# Altium footprint library CONN_W2B_JST.PcbLib: 168 footprints (part 6 of 11)
Each footprint in its own frame and in the unit in brackets; x right, y up, seen from the top. Pads: shape width x height; smd on the part's side, far side on the other; paste and mask are expansions set on the pad; w line width, h text height; cw(c..) or ccw(c..) is an arc to the next point about the centre after c.
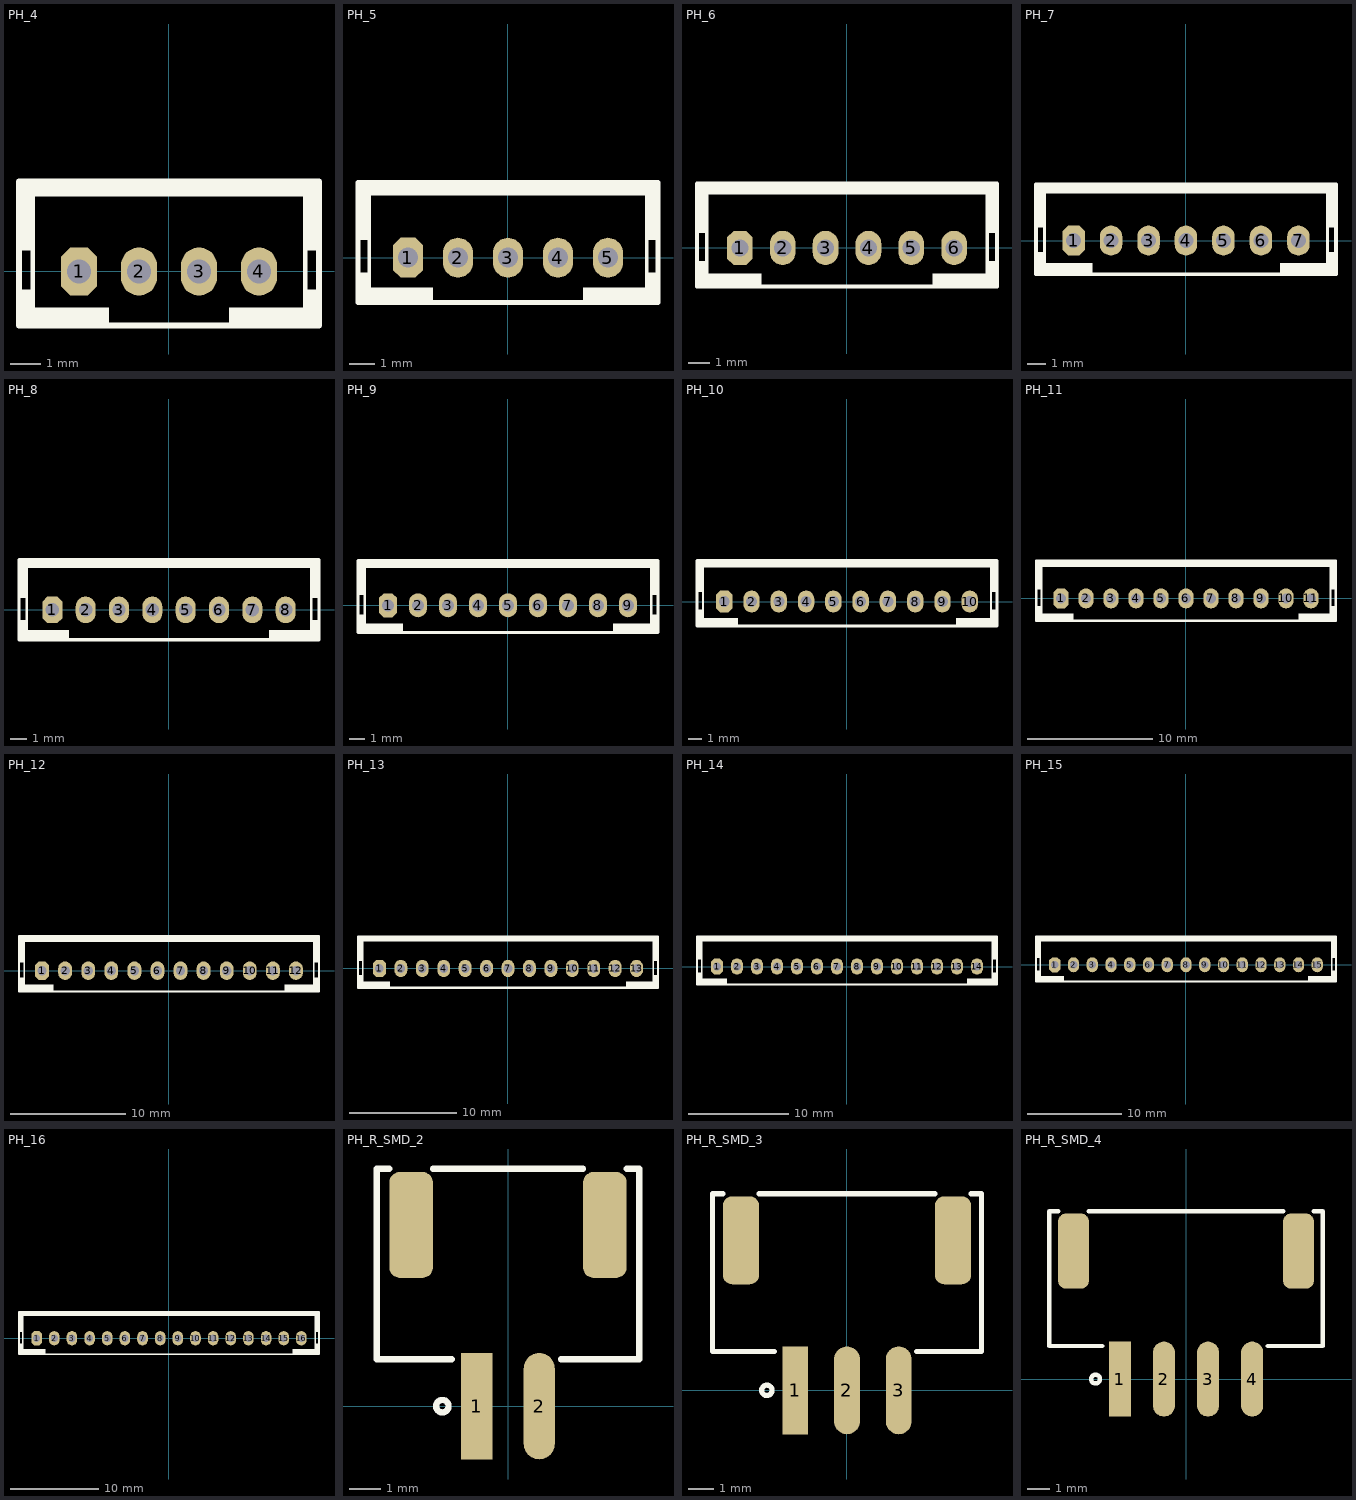
[diagram p5: the footprints below, top view; thin cyan lines are the x and y axes]

## PH_4 [mm] "JST PH Series, pitch: 2.0mm, 2.0A/100v"
pads (4):
  oct 1.2x1.6 hole 0.8: 1(-3,0)
  oval 1.2x1.6 hole 0.8: 2(-1,0) 3(1,0) 4(3,0)
Top Overlay:
  region: 5,-0.6 4.5,-0.6 4.5,-1.8 5,-1.8
  region: 5,-1.2 2,-1.2 2,-1.8 5,-1.8
  region: 5,3 4.5,3 4.5,0.7 5,0.7
  rectangle: -5,-1.8 -4.5,-0.6
  rectangle: -5,-1.8 -2,-1.2
  rectangle: -5,0.7 -4.5,3
  region: -5,3 -5,2.5 5,2.5 5,3
  lines w0.15: -4.55,-1.8 -4.55,3 ; 4.55,-1.8 4.55,3
  lines w0.2: -5,-1.8 5,-1.8 5,3 -5,3 -5,-1.8
3D body "JST - PH - Thru (V) - 4Pin - 2.00mm.stp": height 5.89, standoff -3.05, extent -4.93,-1.674 4.93,3

## PH_5 [mm] "JST PH Series, pitch: 2.0mm, 2.0A/100v"
pads (5):
  oct 1.2x1.6 hole 0.8: 1(-4,0)
  oval 1.2x1.6 hole 0.8: 2(-2,0) 3(0,0) 4(2,0) 5(4,0)
Top Overlay:
  region: 6,-0.6 5.5,-0.6 5.5,-1.8 6,-1.8
  region: 6,-1.2 3,-1.2 3,-1.8 6,-1.8
  region: 6,3 5.5,3 5.5,0.7 6,0.7
  rectangle: -6,-1.8 -5.5,-0.6
  rectangle: -6,-1.8 -3,-1.2
  rectangle: -6,0.7 -5.5,3
  region: -6,3 -6,2.5 6,2.5 6,3
  lines w0.15: -5.55,-1.8 -5.55,3 ; 5.55,-1.8 5.55,3
  lines w0.2: -6,-1.8 6,-1.8 6,3 -6,3 -6,-1.8
3D body "JST - PH - Thru (V) - 5Pin - 2.00mm.stp": height 5.89, standoff -3.05, extent -5.93,-1.674 5.93,3

## PH_6 [mm] "JST PH Series, pitch: 2.0mm, 2.0A/100v"
pads (6):
  oct 1.2x1.6 hole 0.8: 1(-5,0)
  oval 1.2x1.6 hole 0.8: 2(-3,0) 3(-1,0) 4(1,0) 5(3,0) 6(5,0)
Top Overlay:
  region: 7,-0.6 6.5,-0.6 6.5,-1.8 7,-1.8
  region: 7,-1.2 4,-1.2 4,-1.8 7,-1.8
  region: 7,3 6.5,3 6.5,0.7 7,0.7
  rectangle: -7,-1.8 -6.5,-0.6
  rectangle: -7,-1.8 -4,-1.2
  rectangle: -7,0.7 -6.5,3
  region: -7,3 -7,2.5 7,2.5 7,3
  lines w0.15: -6.55,-1.8 -6.55,3 ; 6.55,-1.8 6.55,3
  lines w0.2: -7,-1.8 7,-1.8 7,3 -7,3 -7,-1.8
3D body "JST - PH - Thru (V) - 6Pin - 2.00mm.stp": height 5.89, standoff -3.05, extent -6.93,-1.674 6.93,3

## PH_7 [mm] "JST PH Series, pitch: 2.0mm, 2.0A/100v"
pads (7):
  oct 1.2x1.6 hole 0.8: 1(-6,0)
  oval 1.2x1.6 hole 0.8: 2(-4,0) 3(-2,0) 4(0,0) 5(2,0) 6(4,0) 7(6,0)
Top Overlay:
  region: 8,-0.6 7.5,-0.6 7.5,-1.8 8,-1.8
  region: 8,-1.2 5,-1.2 5,-1.8 8,-1.8
  region: 8,3 7.5,3 7.5,0.7 8,0.7
  rectangle: -8,-1.8 -7.5,-0.6
  rectangle: -8,-1.8 -5,-1.2
  rectangle: -8,0.7 -7.5,3
  region: -8,3 -8,2.5 8,2.5 8,3
  lines w0.15: -7.55,-1.8 -7.55,3 ; 7.55,-1.8 7.55,3
  lines w0.2: -8,-1.8 8,-1.8 8,3 -8,3 -8,-1.8
3D body "JST - PH - Thru (V) - 7Pin - 2.00mm.stp": height 5.89, standoff -3.05, extent -7.93,-1.674 7.93,3

## PH_8 [mm] "JST PH Series, pitch: 2.0mm, 2.0A/100v"
pads (8):
  oct 1.2x1.6 hole 0.8: 1(-7,0)
  oval 1.2x1.6 hole 0.8: 2(-5,0) 3(-3,0) 4(-1,0) 5(1,0) 6(3,0) 7(5,0) 8(7,0)
Top Overlay:
  region: 9,-0.6 8.5,-0.6 8.5,-1.8 9,-1.8
  region: 9,-1.2 6,-1.2 6,-1.8 9,-1.8
  region: 9,3 8.5,3 8.5,0.7 9,0.7
  rectangle: -9,-1.8 -8.5,-0.6
  rectangle: -9,-1.8 -6,-1.2
  rectangle: -9,0.7 -8.5,3
  region: -9,3 -9,2.5 9,2.5 9,3
  lines w0.15: -8.55,-1.8 -8.55,3 ; 8.55,-1.8 8.55,3
  lines w0.2: -9,-1.8 9,-1.8 9,3 -9,3 -9,-1.8
3D body "JST - PH - Thru (V) - 8Pin - 2.00mm.stp": height 5.89, standoff -3.05, extent -8.93,-1.674 8.93,3

## PH_9 [mm] "JST PH Series, pitch: 2.0mm, 2.0A/100v"
pads (9):
  oct 1.2x1.6 hole 0.8: 1(-8,0)
  oval 1.2x1.6 hole 0.8: 2(-6,0) 3(-4,0) 4(-2,0) 5(0,0) 6(2,0) 7(4,0) 8(6,0) 9(8,0)
Top Overlay:
  region: 10,-0.6 9.5,-0.6 9.5,-1.8 10,-1.8
  region: 10,-1.2 7,-1.2 7,-1.8 10,-1.8
  region: 10,3 9.5,3 9.5,0.7 10,0.7
  rectangle: -10,-1.8 -9.5,-0.6
  rectangle: -10,-1.8 -7,-1.2
  rectangle: -10,0.7 -9.5,3
  region: -10,3 -10,2.5 9.93,2.5 9.93,3
  lines w0.15: -9.55,-1.8 -9.55,3 ; 9.55,-1.8 9.55,3
  lines w0.2: -10,-1.8 10,-1.8 10,3 -10,3 -10,-1.8
3D body "JST - PH - Thru (V) - 9Pin - 2.00mm.stp": height 5.89, standoff -3.05, extent -9.93,-1.674 9.93,3

## PH_10 [mm] "JST PH Series, pitch: 2.0mm, 2.0A/100v"
pads (10):
  oct 1.2x1.6 hole 0.8: 1(-9,0)
  oval 1.2x1.6 hole 0.8: 2(-7,0) 3(-5,0) 4(-3,0) 5(-1,0) 6(1,0) 7(3,0) 8(5,0) 9(7,0) 10(9,0)
Top Overlay:
  region: 11,-0.6 10.5,-0.6 10.5,-1.8 11,-1.8
  region: 11,-1.2 8,-1.2 8,-1.8 11,-1.8
  region: 11,3 10.5,3 10.5,0.7 11,0.7
  rectangle: -11,-1.8 -10.5,-0.6
  rectangle: -11,-1.8 -8,-1.2
  rectangle: -11,0.7 -10.5,3
  region: -11,3 -11,2.5 11,2.5 11,3
  lines w0.15: -10.55,-1.8 -10.55,3 ; 10.55,-1.8 10.55,3
  lines w0.2: -11,-1.8 11,-1.8 11,3 -11,3 -11,-1.8
3D body "JST - PH - Thru (V) - 10Pin - 2.00mm.stp": height 5.89, standoff -3.05, extent -10.93,-1.674 10.93,3

## PH_11 [mm] "JST PH Series, pitch: 2.0mm, 2.0A/100v"
pads (11):
  oct 1.2x1.6 hole 0.8: 1(-10,0)
  oval 1.2x1.6 hole 0.8: 2(-8,0) 3(-6,0) 4(-4,0) 5(-2,0) 6(0,0) 7(2,0) 8(4,0) 9(6,0) 10(8,0) 11(10,0)
Top Overlay:
  region: -12,3 -12,2.5 12,2.5 12,3
  rectangle: -12,0.7 -11.5,3
  rectangle: -12,-1.8 -9,-1.2
  rectangle: -12,-1.8 -11.5,-0.6
  region: 12,3 11.5,3 11.5,0.7 12,0.7
  region: 12,-1.2 9,-1.2 9,-1.8 12,-1.8
  region: 12,-0.6 11.5,-0.6 11.5,-1.8 12,-1.8
  lines w0.15: -11.55,-1.8 -11.55,3 ; 11.55,-1.8 11.55,3
  lines w0.2: -12,-1.8 -12,3 12,3 12,-1.8 -12,-1.8
3D body "JST - PH - Thru (V) - 11Pin - 2.00mm.stp": height 5.89, standoff -3.05, extent -11.93,-1.674 11.93,3

## PH_12 [mm] "JST PH Series, pitch: 2.0mm, 2.0A/100v"
pads (12):
  oct 1.2x1.6 hole 0.8: 1(-11,0)
  oval 1.2x1.6 hole 0.8: 2(-9,0) 3(-7,0) 4(-5,0) 5(-3,0) 6(-1,0) 7(1,0) 8(3,0) 9(5,0) 10(7,0) 11(9,0) 12(11,0)
Top Overlay:
  region: 13,-0.6 12.5,-0.6 12.5,-1.8 13,-1.8
  region: 13,-1.2 10,-1.2 10,-1.8 13,-1.8
  region: 13,3 12.5,3 12.5,0.7 13,0.7
  rectangle: -13,-1.8 -12.5,-0.6
  rectangle: -13,-1.8 -10,-1.2
  rectangle: -13,0.7 -12.5,3
  region: -13,3 -13,2.5 13,2.5 13,3
  lines w0.15: -12.55,-1.8 -12.55,3 ; 12.55,-1.8 12.55,3
  lines w0.2: -13,-1.8 13,-1.8 13,3 -13,3 -13,-1.8
3D body "JST - PH - Thru (V) - 12Pin - 2.00mm.stp": height 5.89, standoff -3.05, extent -12.93,-1.674 12.93,3

## PH_13 [mm] "JST PH Series, pitch: 2.0mm, 2.0A/100v"
pads (13):
  oct 1.2x1.6 hole 0.8: 1(-12,0)
  oval 1.2x1.6 hole 0.8: 2(-10,0) 3(-8,0) 4(-6,0) 5(-4,0) 6(-2,0) 7(0,0) 8(2,0) 9(4,0) 10(6,0) 11(8,0) 12(10,0) 13(12,0)
Top Overlay:
  region: 14,-0.6 13.5,-0.6 13.5,-1.8 14,-1.8
  region: 14,-1.2 11,-1.2 11,-1.8 14,-1.8
  region: 14,3 13.5,3 13.5,0.7 14,0.7
  rectangle: -14,-1.8 -13.5,-0.6
  rectangle: -14,-1.8 -11,-1.2
  rectangle: -14,0.7 -13.5,3
  region: -14,3 -14,2.5 14,2.5 14,3
  lines w0.15: -13.55,-1.8 -13.55,3 ; 13.55,-1.8 13.55,3
  lines w0.2: -14,-1.8 14,-1.8 14,3 -14,3 -14,-1.8
3D body "JST - PH - Thru (V) - 13Pin - 2.00mm.stp": height 5.89, standoff -3.05, extent -13.93,-1.674 13.93,3

## PH_14 [mm] "JST PH Series, pitch: 2.0mm, 2.0A/100v"
pads (14):
  oct 1.2x1.6 hole 0.8: 1(-13,0)
  oval 1.2x1.6 hole 0.8: 2(-11,0) 3(-9,0) 4(-7,0) 5(-5,0) 6(-3,0) 7(-1,0) 8(1,0) 9(3,0) 10(5,0) 11(7,0) 12(9,0) 13(11,0) 14(13,0)
Top Overlay:
  region: 15,-0.6 14.5,-0.6 14.5,-1.8 15,-1.8
  region: 15,-1.2 12,-1.2 12,-1.8 15,-1.8
  region: 15,3 14.5,3 14.5,0.7 15,0.7
  rectangle: -15,-1.8 -14.5,-0.6
  rectangle: -15,-1.8 -12,-1.2
  rectangle: -15,0.7 -14.5,3
  region: -15,3 -15,2.5 15,2.5 15,3
  lines w0.15: -14.55,-1.8 -14.55,3 ; 14.55,-1.8 14.55,3
  lines w0.2: -15,-1.8 15,-1.8 15,3 -15,3 -15,-1.8
3D body "JST - PH - Thru (V) - 14Pin - 2.00mm.stp": height 5.89, standoff -3.05, extent -14.93,-1.7 14.93,2.974

## PH_15 [mm] "JST PH Series, pitch: 2.0mm, 2.0A/100v"
pads (15):
  oct 1.2x1.6 hole 0.8: 1(-14,0)
  oval 1.2x1.6 hole 0.8: 2(-12,0) 3(-10,0) 4(-8,0) 5(-6,0) 6(-4,0) 7(-2,0) 8(0,0) 9(2,0) 10(4,0) 11(6,0) 12(8,0) 13(10,0) 14(12,0) 15(14,0)
Top Overlay:
  region: -16,3 -16,2.5 16,2.5 16,3
  rectangle: -16,0.7 -15.5,3
  rectangle: -16,-1.8 -13,-1.2
  rectangle: -16,-1.8 -15.5,-0.6
  region: 16,3 15.5,3 15.5,0.7 16,0.7
  region: 16,-1.2 13,-1.2 13,-1.8 16,-1.8
  region: 16,-0.6 15.5,-0.6 15.5,-1.8 16,-1.8
  lines w0.15: -15.55,-1.8 -15.55,3 ; 15.55,-1.8 15.55,3
  lines w0.2: -16,-1.8 -16,3 16,3 16,-1.8 -16,-1.8
3D body "JST - PH - Thru (V) - 15Pin - 2.00mm.stp": height 5.89, standoff -3.05, extent -15.93,-1.674 15.93,3

## PH_16 [mm] "JST PH Series, pitch: 2.0mm, 2.0A/100v"
pads (16):
  oct 1.2x1.6 hole 0.8: 1(-15,0)
  oval 1.2x1.6 hole 0.8: 2(-13,0) 3(-11,0) 4(-9,0) 5(-7,0) 6(-5,0) 7(-3,0) 8(-1,0) 9(1,0) 10(3,0) 11(5,0) 12(7,0) 13(9,0) 14(11,0) 15(13,0) 16(15,0)
Top Overlay:
  region: -17,3 -17,2.5 17,2.5 17,3
  rectangle: -17,0.7 -16.5,3
  rectangle: -17,-1.8 -14,-1.2
  rectangle: -17,-1.8 -16.5,-0.6
  region: 17,3 16.5,3 16.5,0.7 17,0.7
  region: 17,-1.2 14,-1.2 14,-1.8 17,-1.8
  region: 17,-0.6 16.5,-0.6 16.5,-1.8 17,-1.8
  lines w0.15: -16.55,-1.8 -16.55,3 ; 16.55,-1.8 16.55,3
  lines w0.2: -17,-1.8 -17,3 17,3 17,-1.8 -17,-1.8
3D body "JST - PH - Thru (V) - 16Pin - 2.00mm.stp": height 5.89, standoff -3.05, extent -16.93,-1.7 16.93,2.974

## PH_R_SMD_2 [mm] "JST PH Series, pitch: 2.0mm, 2.0A/100v, Right Angle, SMD"
pads (4):
  rect 1x3.4 smd: 1(-1,0)
  oval 1x3.4 smd: 2(1,0)
  rrect50% 1.4x3.4 smd: ""(-3.1,5.8) ""(3.1,5.8)
Top Overlay:
  circle w0.2: c-2.1,0 r0.2
  lines w0.2: -3.8,7.6 -4.2,7.6 -4.2,1.5 -1.8,1.5 ; -2.4,7.6 2.4,7.6 ; 1.7,1.5 4.2,1.5 4.2,7.6 3.8,7.6
3D body "JST - PH - SMD (R) - 2Pin - 2.00mm.stp": height 5.38, standoff 0, extent -4.073,-0.8 4.073,7.455

## PH_R_SMD_3 [mm] "JST PH Series, pitch: 2.0mm, 2.0A/100v, Right Angle, SMD"
pads (5):
  rect 1x3.4 smd: 1(-2,0)
  oval 1x3.4 smd: 2(0,0) 3(2,0)
  rrect50% 1.4x3.4 smd: ""(-4.1,5.8) ""(4.1,5.8)
Top Overlay:
  circle w0.2: c-3.1,0 r0.2
  lines w0.2: -4.8,7.6 -5.2,7.6 -5.2,1.5 -2.8,1.5 ; -3.4,7.6 3.4,7.6 ; 2.7,1.5 5.2,1.5 5.2,7.6 4.8,7.6
3D body "JST - PH - SMD (R) - 3Pin - 2.00mm.stp": height 5.38, standoff 0, extent -5.073,-0.8 5.073,7.455

## PH_R_SMD_4 [mm] "JST PH Series, pitch: 2.0mm, 2.0A/100v, Right Angle, SMD"
pads (6):
  rect 1x3.4 smd: 1(-3,0)
  oval 1x3.4 smd: 2(-1,0) 3(1,0) 4(3,0)
  rrect50% 1.4x3.4 smd: ""(-5.1,5.8) ""(5.1,5.8)
Top Overlay:
  circle w0.2: c-4.1,0 r0.2
  lines w0.2: -5.8,7.6 -6.2,7.6 -6.2,1.5 -3.8,1.5 ; -4.4,7.6 4.4,7.6 ; 3.7,1.5 6.2,1.5 6.2,7.6 5.8,7.6
3D body "JST - PH - SMD (R) - 4Pin - 2.00mm.stp": height 5.38, standoff 0, extent -6.073,-0.8 6.073,7.455